# Altium integrated library W25Q64FW.IntLib: 1 symbol
Pins are listed as number, name and electrical type; pins without a type are passive.

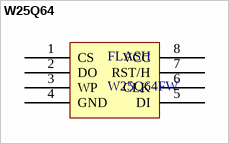
[diagram p0: symbol W25Q64]

## W25Q64
designator FLASH, comment W25Q64FW
footprint PCBComponent_1
pins: 1 CS, 2 DO, 3 WP, 4 GND, 5 DI, 6 CLK, 7 RST/H, 8 VCC